# EAGLE library part LT3724 (library PowerProducts)
LT-Spice library generated with : ltspice.ulp from: D:/Program Files (x86)/LTC/LTspiceIV/lib/sym/PowerProducts/LT3742*.asy at 07.10.2012 16:36:06
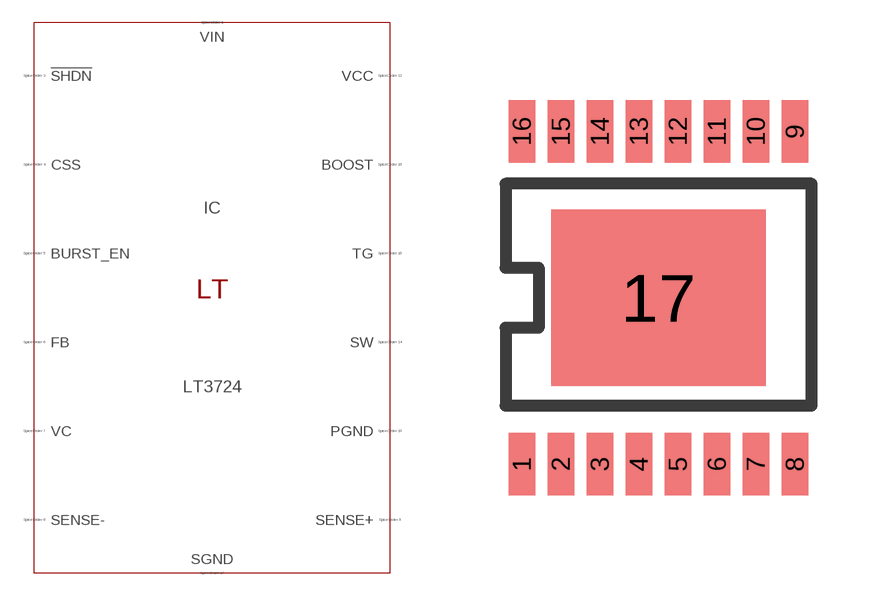
[diagram p92: symbol with the pads of TSSOP16BC(FE); footprint TSSOP16BC(FE)]

Designator prefix IC

## LT3724 (SPICEMODEL: LT3724.sub; SPICEPREFIX: X; VALUE2: LT3724)  [TSSOP16BC(FE)]
1  VIN  pas
3  !SHDN  pas
4  CSS  pas
5  BURST_EN  pas
6  FB  pas
7  VC  pas
8  SGND  pas
9  SENSE-  pas
10  SENSE+  pas
11  PGND  pas
12  VCC  pas
14  SW  pas
15  TG  pas
16  BOOST  pas
17  SGND  pas

## Footprint TSSOP16BC(FE) (pad centres in mm)
Package generated from: TSSOP16BC(FE).asc (!PADS-POWERPCB-V5.0-BASIC! DESIGN DATABASE ASCII FILE 1.0) with :import-pads-powerpcb-v5.ulp Version 1.0.1 at 04.10.2012 14:11:39
smd 0.66 x 1.575: 1 -3.413,-4.162; 2 -2.438,-4.162; 3 -1.462,-4.162; 4 -0.487,-4.162; 5 0.487,-4.162; 6 1.462,-4.162; 7 2.438,-4.162; 8 3.413,-4.162; 9 3.413,4.162; 10 2.438,4.162; 11 1.462,4.162; 12 0.487,4.162; 13 -0.487,4.162; 14 -1.462,4.162; 15 -2.438,4.162; 16 -3.413,4.162
smd 5.37 x 4.41: 17 0,0